# Altium footprint library MainBoard V1.PcbLib: 15 footprints
Each footprint in its own frame and in the unit in brackets; x right, y up, seen from the top. Pads: shape width x height; smd on the part's side, far side on the other; paste and mask are expansions set on the pad; w line width, h text height; cw(c..) or ccw(c..) is an arc to the next point about the centre after c.
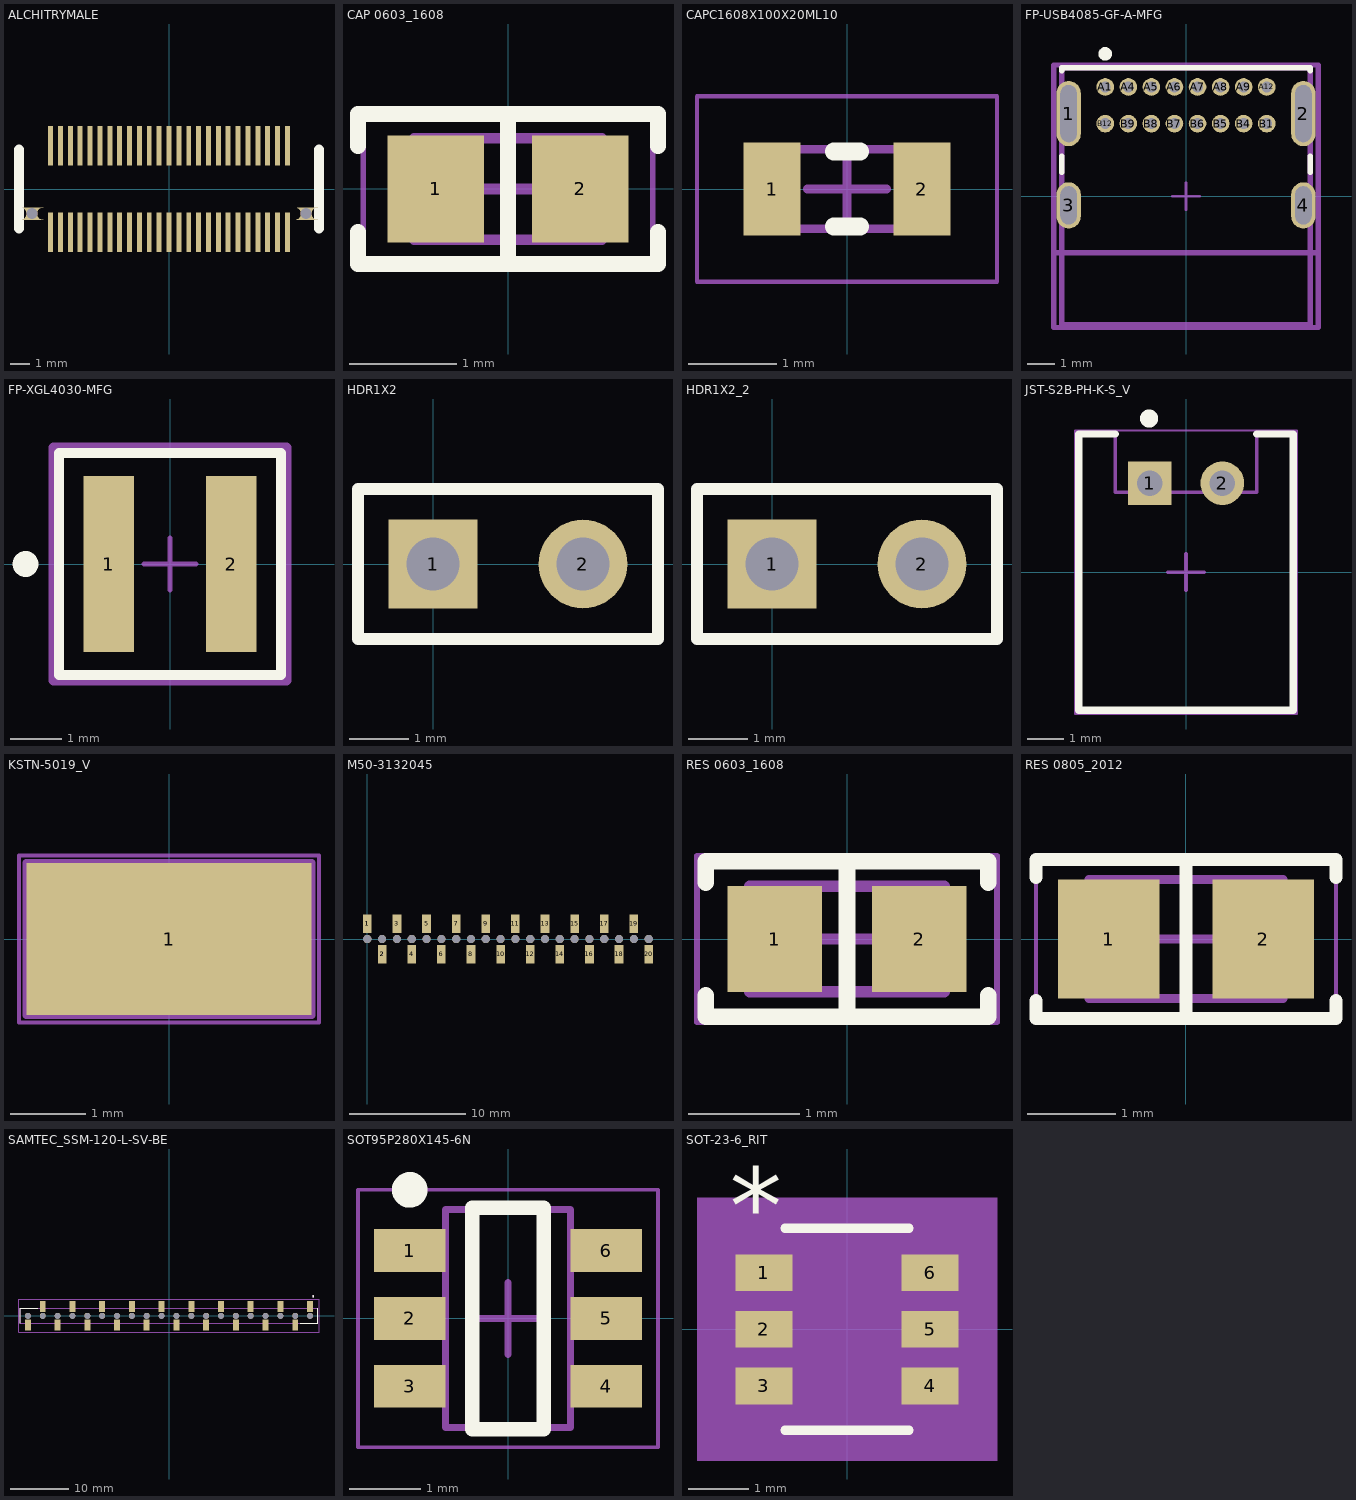
[diagram p0: the footprints below, top view; thin cyan lines are the x and y axes]

## ALCHITRYMALE [mm]
pads (52):
  rect 0.25x2 smd: 1(-6,2.2) 2(-5.5,2.2) 3(-5,2.2) 4(-4.5,2.2) 5(-4,2.2) 6(-3.5,2.2) 7(-3,2.2) 8(-2.5,2.2) 9(-2,2.2) 10(-1.5,2.2) 11(-1,2.2) 12(-0.5,2.2) 13(0,2.2) 14(0.5,2.2) 15(1,2.2) 16(1.5,2.2) 17(2,2.2) 18(2.5,2.2) 19(3,2.2) 20(3.5,2.2) 21(4,2.2) 22(4.5,2.2) 23(5,2.2) 24(5.5,2.2) 25(6,2.2) 26(6,-2.2) 27(5.5,-2.2) 28(5,-2.2) 29(4.5,-2.2) 30(4,-2.2) 31(3.5,-2.2) 32(3,-2.2) 33(2.5,-2.2) 34(2,-2.2) 35(1.5,-2.2) 36(1,-2.2) 37(0.5,-2.2) 38(0,-2.2) 39(-0.5,-2.2) 40(-1,-2.2) 41(-1.5,-2.2) 42(-2,-2.2) 43(-2.5,-2.2) 44(-3,-2.2) 45(-3.5,-2.2) 46(-4,-2.2) 47(-4.5,-2.2) 48(-5,-2.2) 49(-5.5,-2.2) 50(-6,-2.2)
  oval 0.55x0 hole 0.55 unplated: 14(-6.95,-1.25) 14(6.95,-1.25)
Top Overlay:
  lines w0.5: -7.6,-2 -7.6,2 ; 7.6,-2 7.6,2
3D body "Alchitry Male Conn.STEP": height 4.4, standoff -0.6, extent -7.6,-2.7 7.6,2.7

## CAP 0603_1608 [mm]
pads (2):
  rect 0.9x1 smd: 1(-0.675,0) 2(0.675,0)
Top Overlay:
  lines w0.15: -1.4,-0.4 -1.4,-0.7 1.4,-0.7 1.4,-0.4 ; -1.4,0.4 -1.4,0.7 1.4,0.7 1.4,0.4 ; 0,-0.7 0,0.7
Mechanical 13:
  lines w0.1: -0.875,-0.475 0.875,-0.475 0.875,0.475 -0.875,0.475 -0.875,-0.475
Mechanical 15:
  lines w0.05: -1.35,-0.75 1.35,-0.75 1.35,0.75 -1.35,0.75 -1.35,-0.75
  lines w0.1: -0.475,0 0.475,0 ; 0,-0.475 0,0.475
3D body "0603 cap.STEP": height 0.82, standoff 0, extent -0.8,-0.412 0.8,0.412

## CAPC1608X100X20ML10 [mm]
pads (2):
  rect 0.65x1.05 smd: 1(-0.85,0) 2(0.85,0)
Top Overlay:
  lines w0.2: -0.15,-0.425 0.15,-0.425 ; -0.15,0.425 0.15,0.425
Mechanical 13:
  lines w0.1: -0.85,-0.45 0.85,-0.45 0.85,0.45 -0.85,0.45 -0.85,-0.45
Mechanical 15:
  lines w0.05: -1.7,-1.05 1.7,-1.05 1.7,1.05 -1.7,1.05 -1.7,-1.05
  lines w0.1: -0.45,0 0.45,0 ; 0,-0.45 0,0.45
3D body: height 1, standoff 0, extent 0.65,-0.45 0.85,0.45
3D body: height 1, standoff 0, extent -0.85,-0.45 -0.65,0.45
3D body: height 1, standoff 0, extent -0.65,-0.45 0.65,0.45

## FP-USB4085-GF-A-MFG [mm]
pads (20):
  rrect100% 0.9x2.4 hole 2.1 slot 0.6 at 0 deg paste-1000 mask+0: 1(-4.325,3.045) 2(4.325,3.045)
  rrect100% 0.9x1.7 hole 1.4 slot 0.6 at 0 deg paste-1000 mask+0: 3(-4.325,-0.335) 4(4.325,-0.335)
  round 0.65 hole 0.4 paste-1000 mask+0: A1(-2.975,4.025) A4(-2.125,4.025) A5(-1.275,4.025) A6(-0.425,4.025) A7(0.425,4.025) A8(1.275,4.025) A9(2.125,4.025) A12(2.975,4.025) B1(2.975,2.675) B4(2.125,2.675) B5(1.275,2.675) B6(0.425,2.675) B7(-0.425,2.675) B8(-1.275,2.675) B9(-2.125,2.675) B12(-2.975,2.675)
Top Overlay:
  circle w0.25: c-2.975,5.245 r0.125
  lines w0.2: -4.575,0.89 -4.575,1.47 ; -4.575,4.62 -4.575,4.735 4.575,4.735 4.575,4.62 ; 4.575,0.89 4.575,1.47
Top 3D Body:
  lines w0.2: -4.875,-2.075 4.875,-2.075 ; -4.575,-4.735 4.575,-4.735 4.575,4.735 -4.575,4.735 -4.575,-4.735
Top Courtyard:
  lines w0.2: -4.875,-4.835 4.875,-4.835 4.875,4.835 -4.875,4.835 -4.875,-4.835
Top Assembly:
  lines w0.2: -4.875,-4.835 4.875,-4.835 4.875,4.835 -4.875,4.835 -4.875,-4.835
  text ".Designator" at 0,0.188 h1
Top Component Center:
  lines w0.1: -0.5,0 0.5,0 ; 0,-0.5 0,0.5
3D body "Conn_GCT_USB4085-GF-A_eec.STEP": height 3.46, standoff -2.1, extent -4.515,-4.6 4.515,4.57

## FP-XGL4030-MFG [mm]
pads (2):
  rect 0.98x3.4 smd paste+0 mask+0: 1(-1.185,0) 2(1.185,0)
Top Overlay:
  circle w0.25: c-2.8,0 r0.125
  lines w0.2: -2.15,-2.15 2.15,-2.15 2.15,2.15 -2.15,2.15 -2.15,-2.15
Top 3D Body:
  lines w0.2: -2.15,-2.15 2.15,-2.15 2.15,2.15 -2.15,2.15 -2.15,-2.15
Top Courtyard:
  lines w0.2: -2.25,-2.25 2.25,-2.25 2.25,2.25 -2.25,2.25 -2.25,-2.25
Top Assembly:
  lines w0.2: -2.25,-2.25 2.25,-2.25 2.25,2.25 -2.25,2.25 -2.25,-2.25
  text ".Designator" at 0,0.188 h1
Top Component Center:
  lines w0.1: -0.5,0 0.5,0 ; 0,-0.5 0,0.5
3D body "Ind_Coilcraft_XGL4030-222MEC_eec.STEP": height 3.1, standoff 0, extent -2,-2 2,2

## HDR1X2 [mm]
pads (2):
  rect 1.5x1.5 hole 0.9: 1(0,0)
  round 1.5 hole 0.9: 2(2.54,0)
Top Overlay:
  lines w0.2: -1.27,-1.27 -1.27,1.27 3.81,1.27 3.81,-1.27 -1.27,-1.27

## HDR1X2_2 [mm]
pads (2):
  rect 1.5x1.5 hole 0.9: 1(0,0)
  round 1.5 hole 0.9: 2(2.54,0)
Top Overlay:
  lines w0.2: -1.27,-1.27 -1.27,1.27 3.81,1.27 3.81,-1.27 -1.27,-1.27

## JST-S2B-PH-K-S_V [mm]
pads (2):
  rect 1.2x1.2 hole 0.7: 1(-1,2.45)
  round 1.2 hole 0.7: 2(1,2.45)
Top Overlay:
  circle w0.25: c-1.016,4.228 r0.125
  lines w0.2: -1.95,3.8 -2.95,3.8 -2.95,-3.8 2.95,-3.8 2.95,3.8 1.95,3.8
Mechanical 13:
  lines w0.1: -2.95,-3.8 -2.95,3.8 -1.95,3.8 -1.95,3.8 -1.95,2.2 1.95,2.2 1.95,3.8 2.95,3.8 2.95,-3.8 -2.95,-3.8
Mechanical 15:
  lines w0.05: -3.05,-3.9 3.05,-3.9 3.05,3.9 -3.05,3.9 -3.05,-3.9
  lines w0.1: -0.5,0 0.5,0 ; 0,-0.5 0,0.5
3D body "S2B-PH-K-S.STEP": height 4.8, standoff -3.4, extent -2.95,-3.8 2.95,3.8

## KSTN-5019_V [mm]
pads (1):
  rect 3.8x2.03 smd: 1(0,0)
Mechanical 13:
  lines w0.1: -1.905,-1.015 1.905,-1.015 1.905,1.015 -1.905,1.015 -1.905,-1.015
Mechanical 15:
  lines w0.05: -2,-1.115 -2,1.115 2,1.115 2,-1.115 -2,-1.115
  lines w0.1: -0.5,0 0.5,0 ; 0,-0.5 0,0.5
3D body "keystone-PN5019.STEP": height 2.29, standoff 0, extent -1.905,-1.015 1.905,1.017

## M50-3132045 [mm]
pads (44):
  rect 0.74x1.6 smd: 1(0,1.3) 1(0,1.3) 2(1.27,-1.3) 2(1.27,-1.3) 3(2.54,1.3) 4(3.81,-1.3) 5(5.08,1.3) 6(6.35,-1.3) 7(7.62,1.3) 8(8.89,-1.3) 9(10.16,1.3) 10(11.43,-1.3) 11(12.7,1.3) 12(13.97,-1.3) 13(15.24,1.3) 14(16.51,-1.3) 15(17.78,1.3) 16(19.05,-1.3) 17(20.32,1.3) 18(21.59,-1.3) 19(22.86,1.3) 20(24.13,-1.3)
  round 0.7 hole 0.7: ""(0,0) ""(0,0) ""(1.27,0) ""(1.27,0) ""(2.54,0) ""(3.81,0) ""(5.08,0) ""(6.35,0) ""(7.62,0) ""(8.89,0) ""(10.16,0) ""(11.43,0) ""(12.7,0) ""(13.97,0) ""(15.24,0) ""(16.51,0) ""(17.78,0) ""(19.05,0) ""(20.32,0) ""(21.59,0) ""(22.86,0) ""(24.13,0)
3D body "M50-3132045_asm.stp": height 2, standoff -0.1, extent -0.85,-1.549 24.95,1.549

## RES 0603_1608 [mm]
pads (2):
  rect 0.85x0.95 smd: 1(-0.65,0) 2(0.65,0)
Top Overlay:
  lines w0.15: -1.27,-0.508 -1.27,-0.7 1.27,-0.7 1.27,-0.508 ; -1.27,0.508 -1.27,0.7 1.27,0.7 1.27,0.508 ; 0,-0.7 0,0.7
Mechanical 13:
  lines w0.1: -0.875,-0.475 -0.875,0.475 0.875,0.475 0.875,-0.475 -0.875,-0.475
Mechanical 15:
  lines w0.05: -1.35,-0.75 -1.35,0.75 1.35,0.75 1.35,-0.75 -1.35,-0.75
  lines w0.1: -0.475,0 0.475,0 ; 0,-0.475 0,0.475
3D body "0603 resistor.STEP": height 0.45, standoff 0, extent -0.8,-0.4 0.8,0.4

## RES 0805_2012 [mm]
pads (2):
  rect 1.15x1.35 smd: 1(-0.875,0) 2(0.875,0)
Top Overlay:
  lines w0.15: -1.7,-0.7 -1.7,-0.9 1.7,-0.9 1.7,-0.7 ; -1.7,0.7 -1.7,0.9 1.7,0.9 1.7,0.7 ; 0,-0.9 0,0.9
Mechanical 13:
  lines w0.1: -1.1,-0.675 1.1,-0.675 1.1,0.675 -1.1,0.675 -1.1,-0.675
Mechanical 15:
  lines w0.05: -1.7,-0.95 1.7,-0.95 1.7,0.95 -1.7,0.95 -1.7,-0.95
  lines w0.1: -0.5,0 0.5,0 ; 0,-0.5 0,0.5
3D body "0805 resistor.STEP": height 0.6, standoff 0, extent -1,-0.625 1,0.625

## SAMTEC_SSM-120-L-SV-BE [mm]
pads (40):
  rect 1.02x1.905 smd: 01(24.13,1.603) 02(21.59,-1.603) 03(19.05,1.603) 04(16.51,-1.603) 05(13.97,1.603) 06(11.43,-1.603) 07(8.89,1.603) 08(6.35,-1.603) 09(3.81,1.603) 10(1.27,-1.603) 11(-1.27,1.603) 12(-3.81,-1.603) 13(-6.35,1.603) 14(-8.89,-1.603) 15(-11.43,1.603) 16(-13.97,-1.603) 17(-16.51,1.603) 18(-19.05,-1.603) 19(-21.59,1.603) 20(-24.13,-1.603)
  round 1.02 hole 1.02 unplated: ""(-24.13,0) ""(-21.59,0) ""(-19.05,0) ""(-16.51,0) ""(-13.97,0) ""(-11.43,0) ""(-8.89,0) ""(-6.35,0) ""(-3.81,0) ""(-1.27,0) ""(1.27,0) ""(3.81,0) ""(6.35,0) ""(8.89,0) ""(11.43,0) ""(13.97,0) ""(16.51,0) ""(19.05,0) ""(21.59,0) ""(24.13,0)
Top Overlay:
  circle w0.2: c24.64,3.315 r0.1
  lines w0.2: -25.4,-1.27 -25.4,1.27 -22.45,1.27 ; 22.45,-1.27 25.4,-1.27 25.4,1.27
Mechanical 13:
  circle w0.2: c24.64,3.315 r0.1
  lines w0.1: -25.4,-1.27 25.4,-1.27 25.4,1.27 -25.4,1.27 -25.4,-1.27
Mechanical 15:
  lines w0.05: -25.65,-2.805 25.65,-2.805 25.65,2.805 -25.65,2.805 -25.65,-2.805

## SOT95P280X145-6N [mm]
pads (6):
  rect 1x0.6 smd: 1(-1.375,0.95) 2(-1.375,0) 3(-1.375,-0.95) 4(1.375,-0.95) 5(1.375,0) 6(1.375,0.95)
Top Overlay:
  circle w0.25: c-1.375,1.8 r0.125
  lines w0.2: -0.5,-1.55 -0.5,1.55 0.5,1.55 0.5,-1.55 -0.5,-1.55
Mechanical 13:
  lines w0.1: -0.875,-1.525 0.875,-1.525 0.875,1.525 -0.875,1.525 -0.875,-1.525
Mechanical 15:
  lines w0.05: -2.1,-1.8 2.1,-1.8 2.1,1.8 -2.1,1.8 -2.1,-1.8
  lines w0.1: -0.5,0 0.5,0 ; 0,-0.5 0,0.5
3D body "SOT95P280X145-6N.step": height 1.45, standoff 0, extent -1.5,-1.525 1.5,1.525

## SOT-23-6_RIT [mil]
pads (6):
  rect 37.5x24 smd paste+0 mask+0: 1(-54.25,37) 2(-54.25,0) 3(-54.25,-37) 4(54.25,-37) 5(54.25,0) 6(54.25,37)
Top Overlay:
  lines w6: -40.5,-66 40.5,-66 ; -40.5,66 40.5,66
  text "*" at -76.75,56 h50
Top Assembly:
  region: 98,-86 -98,-86 -98,86 98,86
Mechanical 13:
  lines w0: -12,61 ccw(c0,61) 12,61
  lines w1: -59,-48 -35.5,-48 -35.5,-26 -59,-26 -59,-48 ; -59,-11 -35.5,-11 -35.5,11 -59,11 -59,-11 ; -59,26 -35.5,26 -35.5,48 -59,48 -59,26 ; -35.5,-61 -35.5,61 35.5,61 35.5,-61 -35.5,-61 ; 35.5,-48 59,-48 59,-26 35.5,-26 35.5,-48 ; 35.5,-11 59,-11 59,11 35.5,11 35.5,-11 ; 35.5,26 59,26 59,48 35.5,48 35.5,26
  text "*" at -33,8 h50
Mechanical 15:
  region: -45.5,-59 -83,-59 -83,59 -45.5,59 -45.5,71 45.5,71 45.5,59 83,59 83,-59 45.5,-59 45.5,-71 -45.5,-71
  lines w6: -83,-59 -45.5,-59 -45.5,-71 45.5,-71 45.5,-59 83,-59 83,59 45.5,59 45.5,71 -45.5,71 -45.5,59 -83,59 -83,-59
3D body "SOT-23-6_RIT.step": height 51.1, standoff 0, extent -59.02,-60.98 59.02,60.98